# EAGLE library part USB-OTG (library pie)
USB Connector OTG connector with ID pin
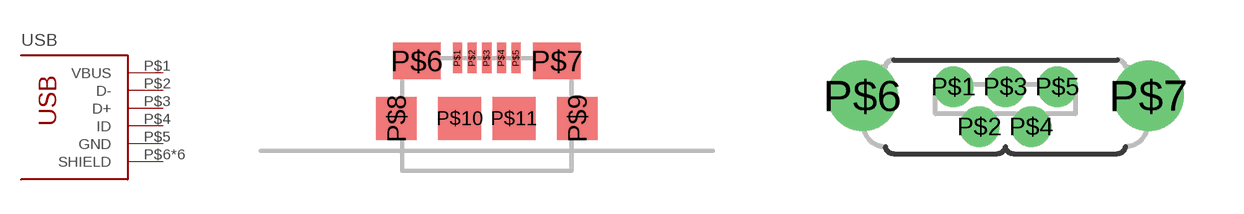
[diagram p23: symbol with the pads of USB-MICRO-AB; footprints USB-MICRO-AB, USB-MICRO-AB-VERT]

Designator prefix USB

## USB-OTGMICRO-AB (PIE-DIGIKEY-PN-PRI: H11635CT-ND; PIE-INT-REF-NUM: USB)  [USB-MICRO-AB]
P$1  VBUS
P$2  D-
P$3  D+
P$4  ID
P$5  GND
P$6  SHIELD
P$7  SHIELD
P$8  SHIELD
P$9  SHIELD
P$10  SHIELD
P$11  SHIELD

## USB-OTGMICRO-AB-VERT (PIE-DIGIKEY-PN: 732-5959-1-ND)  [USB-MICRO-AB-VERT]
P$1  VBUS
P$2  D-
P$3  D+
P$4  ID
P$5  GND
P$6  SHIELD
P$7  SHIELD

## Footprint USB-MICRO-AB (pad centres in mm)
USB Micro-AB connector Designed for Hirose ZX62-AB-5PA
smd 0.4 x 1.35: P$1 -1.3,1; P$2 -0.65,1; P$3 0,1; P$4 0.65,1; P$5 1.3,1
smd 2.1 x 1.6: P$6 -3.1,0.875; P$7 3.1,0.875
smd 1.8 x 1.9: P$8 -4,-1.675; P$9 4,-1.675
smd 1.9 x 1.9: P$10 -1.2,-1.675; P$11 1.2,-1.675

## Footprint USB-MICRO-AB-VERT (pad centres in mm)
USB Micro-AB vertical connector. Source: http://www.digikey.com/product-detail/en/614105150621/732-5959-2-ND/5047748
drill 0.5 pad 0.7: P$1 -1.3,0.5; P$2 -0.65,-0.5; P$3 0,0.5; P$4 0.65,-0.5; P$5 1.3,0.5
drill 1.175: P$6 -3.575,0.28; P$7 3.575,0.28